# EAGLE library part TA8429H/TA8429HQ (library okamoto)
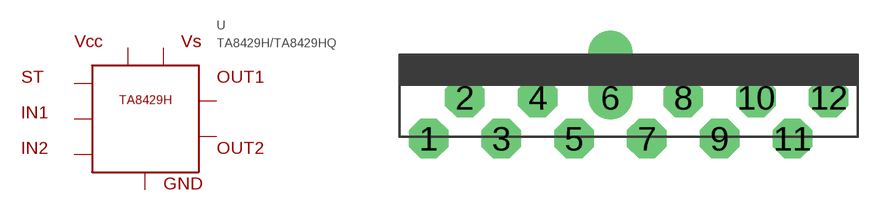
[diagram p19: symbol with the pads of HZIP12-P-1.78B; footprint HZIP12-P-1.78B]

Designator prefix -

## TA8429H/TA8429HQ  [HZIP12-P-1.78B]
1  IN1  in
2  IN2  in
4  OUT1  out
6  GND  pwr
8  OUT2  out
10  VS  pwr
11  VCC  pwr
12  ST  in

## Footprint HZIP12-P-1.78B (pad centres in mm)
drill 1 pad 1.93 octagon: 1 -8.89,-2; 2 -7.112,0; 3 -5.334,-2; 4 -3.556,0; 5 -1.778,-2; 7 1.778,-2; 8 3.556,0; 9 5.334,-2; 10 7.112,0; 11 8.89,-2; 12 10.668,0
drill 1 pad 2.184 offset: 6 0,0